# EAGLE library part 64901429522 (library Wuerth_Elektronik_eiCan_07_Mini_Power_Connectors)
WR-MPC4-4.20mm Male Dual Row Angled Header,14 pins
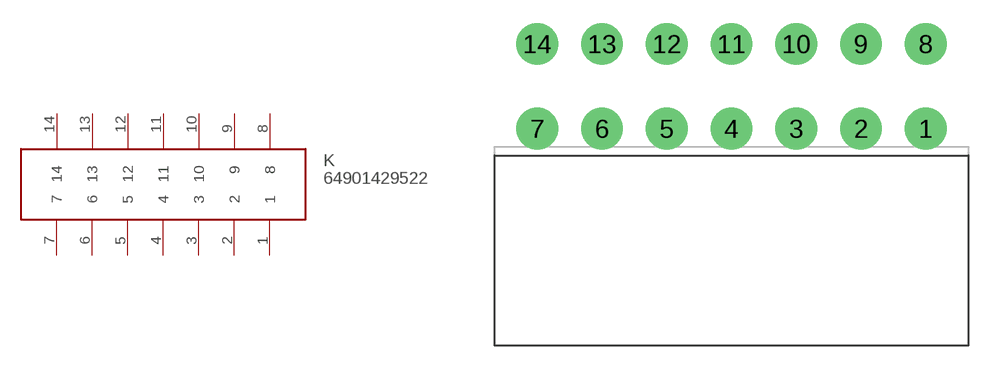
[diagram p4: symbol with the pads of 64901429522; footprint 64901429522]

Designator prefix K

## 64901429522  [64901429522]
1  1
2  2
3  3
4  4
5  5
6  6
7  7
8  8
9  9
10  10
11  11
12  12
13  13
14  14

## Footprint 64901429522 (pad centres in mm)
WR-MPC4-4.20mm Male Dual Row Angled Header,14 pins
drill 1.8 round: 1 10.095,-2.75; 2 5.895,-2.75; 3 1.695,-2.75; 4 -2.505,-2.75; 5 -6.705,-2.75; 6 -10.905,-2.75; 7 -15.105,-2.75; 8 10.095,2.75; 9 5.895,2.75; 10 1.695,2.75; 11 -2.505,2.75; 12 -6.705,2.75; 13 -10.905,2.75; 14 -15.105,2.75